# Altium footprint library GEOS-5M.PcbLib: 1 footprints
Each footprint in its own frame and in the unit in brackets; x right, y up, seen from the top. Pads: shape width x height; smd on the part's side, far side on the other; paste and mask are expansions set on the pad; w line width, h text height; cw(c..) or ccw(c..) is an arc to the next point about the centre after c.
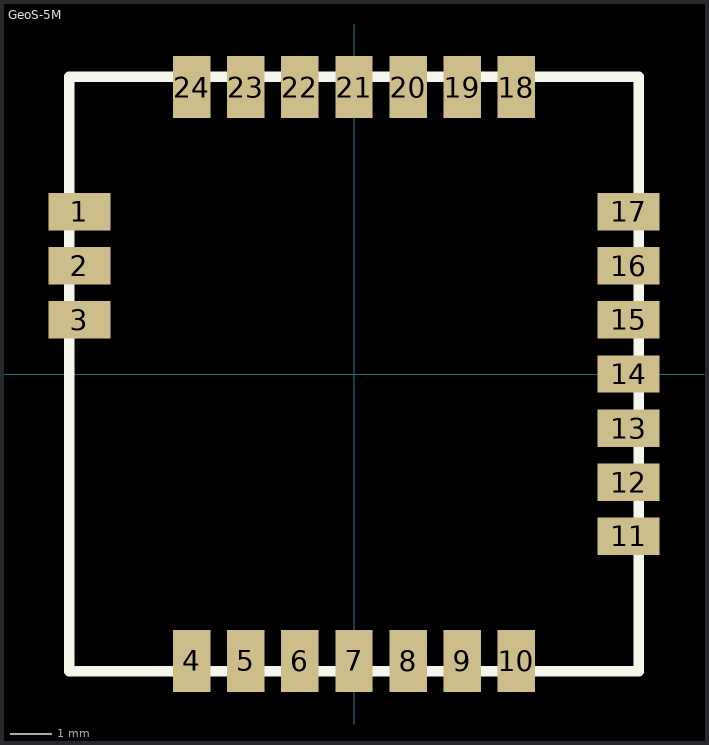
[diagram p0: the footprint, top view; thin cyan lines are the x and y axes]

## GeoS-5M [mm]
pads (24):
  rect 1.5x0.9 smd: 1(-6.6,3.9) 2(-6.6,2.6) 3(-6.6,1.3) 11(6.6,-3.9) 12(6.6,-2.6) 13(6.6,-1.3) 14(6.6,0) 15(6.6,1.3) 16(6.6,2.6) 17(6.6,3.9)
  rect 0.9x1.5 smd: 4(-3.9,-6.9) 5(-2.6,-6.9) 6(-1.3,-6.9) 7(0,-6.9) 8(1.3,-6.9) 9(2.6,-6.9) 10(3.9,-6.9) 18(3.9,6.9) 19(2.6,6.9) 20(1.3,6.9) 21(0,6.9) 22(-1.3,6.9) 23(-2.6,6.9) 24(-3.9,6.9)
Top Overlay:
  lines w0.254: -6.85,-7.15 -6.85,7.15 6.85,7.15 6.85,-7.15 -6.85,-7.15
3D body "GeoS-3M_3D.STEP": height 2.65, standoff -0.04, extent -6.85,-7.15 6.85,7.15